# EAGLE library part SLG51001W (library GREENPAK)
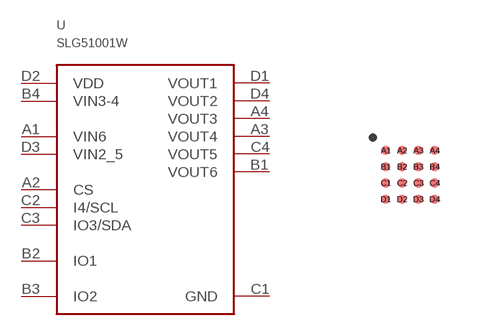
[diagram p53: symbol with the pads of WLCSP-16-1.675X1.675-A; footprint WLCSP-16-1.675X1.675-A]

Designator prefix -

## SLG51001W  [WLCSP-16-1.675X1.675-A]
A1  VIN6
A2  CS
A3  VOUT4
A4  VOUT3
B1  VOUT6
B2  IO1
B3  IO2
B4  VIN3-4
C1  GND
C2  I4/SCL
C3  IO3/SDA
C4  VOUT5
D1  VOUT1
D2  VDD
D3  VIN2_5
D4  VOUT2

## Footprint WLCSP-16-1.675X1.675-A (pad centres in mm)
smd 0.229 x 0.229: A1 -0.622,0.635; A2 -0.215,0.635; A3 0.191,0.635; A4 0.597,0.635; B1 -0.622,0.229; B2 -0.215,0.229; B3 0.191,0.229; B4 0.597,0.229; C1 -0.622,-0.178; C2 -0.215,-0.178; C3 0.191,-0.178; C4 0.597,-0.178; D1 -0.622,-0.584; D2 -0.215,-0.584; D3 0.191,-0.584; D4 0.597,-0.584